# Altium footprint library CRYSTALS.PcbLib: 4 footprints
Each footprint in its own frame and in the unit in brackets; x right, y up, seen from the top. Pads: shape width x height; smd on the part's side, far side on the other; paste and mask are expansions set on the pad; w line width, h text height; cw(c..) or ccw(c..) is an arc to the next point about the centre after c.
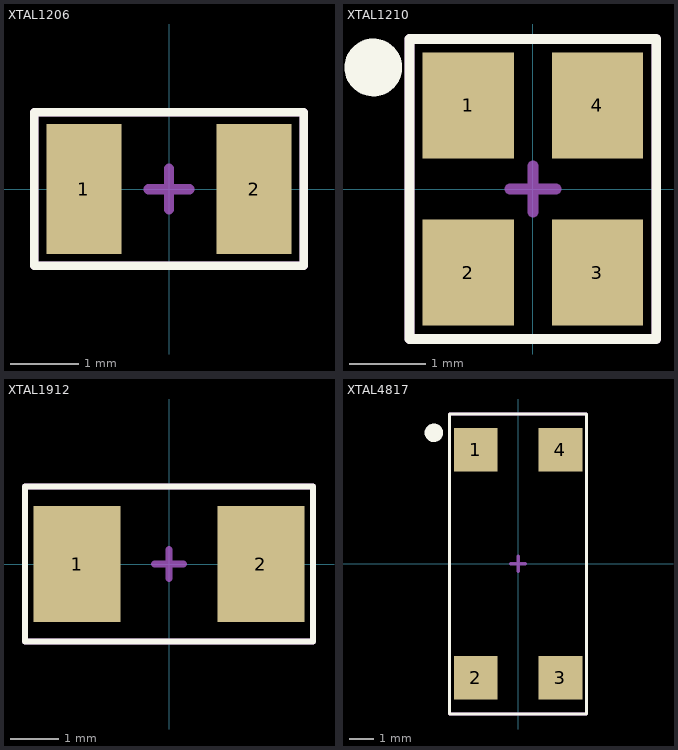
[diagram p0: the footprints below, top view; thin cyan lines are the x and y axes]

## XTAL1206 [mm]
pads (2):
  rect 1.1x1.9 smd: 1(-1.25,0) 2(1.25,0)
Top Overlay:
  lines w0.127: -1.975,-1.125 1.975,-1.125 1.975,1.125 -1.975,1.125 -1.975,-1.125
Top Assembly:
  lines w0.127: -1.975,-1.125 -1.975,1.125 1.975,1.125 1.975,-1.125 -1.975,-1.125
  text ".Designator" at -1.55,-0.375 h0.7
Top Component Center:
  lines w0.15: -0.3,-0.002 0.3,-0.002 ; 0,-0.302 0,0.298
3D body: height 0.9, standoff 0, extent -1.6,-0.75 1.6,0.75
3D body: height 0.6, standoff 0, extent 1.02,-0.637 1.62,0.638
3D body: height 0.6, standoff 0, extent -1.62,-0.637 -1.02,0.637

## XTAL1210 [mm]
pads (4):
  rect 1.2x1.4 smd: 1(-0.85,1.1) 2(-0.85,-1.1) 3(0.85,-1.1) 4(0.85,1.1)
Top Overlay:
  circle w0.4: c-2.1,1.6 r0.18
  lines w0.127: -1.625,-1.975 1.625,-1.975 1.625,1.975 -1.625,1.975 -1.625,-1.975
Top Assembly:
  lines w0.127: -1.625,-1.975 -1.625,1.975 1.625,1.975 1.625,-1.975 -1.625,-1.975
  text ".Designator" at 0.1,-1.35 h0.7
Top Component Center:
  lines w0.15: -0.298,0 0.302,0 ; 0.002,-0.3 0.002,0.3
3D body: height 0.6, standoff 0, extent -1.275,0.61 -0.475,1.61
3D body: height 0.6, standoff 0, extent 0.475,0.61 1.275,1.61
3D body: height 0.6, standoff 0, extent -1.275,-1.61 -0.475,-0.61
3D body: height 0.6, standoff 0, extent 0.475,-1.61 1.275,-0.61
3D body: height 1, standoff 0, extent -1.25,-1.6 1.25,1.6

## XTAL1912 [mm]
pads (2):
  rect 1.8x2.4 smd: 1(-1.9,0) 2(1.9,0)
Top Overlay:
  lines w0.127: -2.975,-1.6 -2.975,1.6 2.975,1.6 2.975,-1.6 -2.975,-1.6
Top Assembly:
  lines w0.127: -2.975,-1.6 2.975,-1.6 2.975,1.6 -2.975,1.6 -2.975,-1.6
  text ".Designator" at -2.175,-0.375 h0.7
Top Component Center:
  lines w0.15: -0.3,-0.002 0.3,-0.002 ; 0,-0.302 0,0.298
3D body: height 0.6, standoff 0, extent -2.525,-1 -1.225,1
3D body: height 1.2, standoff 0, extent -2.5,-1.6 2.5,1.6
3D body: height 0.6, standoff 0, extent 1.225,-1 2.525,1

## XTAL4817 [mm]
pads (4):
  rect 1.8x1.8 smd: 1(-1.75,4.7) 2(-1.75,-4.7) 3(1.75,-4.7) 4(1.75,4.7)
Top Overlay:
  circle w0.4: c-3.475,5.4 r0.18
  lines w0.127: -2.825,-6.2 -2.825,6.175 -1.813,6.175 1.813,6.175 2.825,6.175 2.825,-6.2 -2.825,-6.2
Top Assembly:
  lines w0.127: -2.825,-6.2 2.825,-6.2 2.825,6.175 1.813,6.175 -1.813,6.175 -2.825,6.175 -2.825,-6.2
  text ".Designator" at 0.3,-1.925 h0.7
Top Component Center:
  lines w0.15: -0.298,0 0.302,0 ; 0.002,-0.3 0.002,0.3
3D body: height 0.6, standoff 0, extent -2.175,4.3 -1.175,5.1
3D body: height 0.6, standoff 0, extent -2.175,-5.1 -1.175,-4.3
3D body: height 0.6, standoff 0, extent 1.175,4.3 2.175,5.1
3D body: height 3.6, standoff 0, extent -2.15,-6.2 2.15,6.2
3D body: height 0.6, standoff 0, extent 1.175,-5.1 2.175,-4.3